# Altium integrated library Linear Technology Power Management System Supervisor, Monitor and Control.IntLib: 1611 symbols (part 62 of 100)
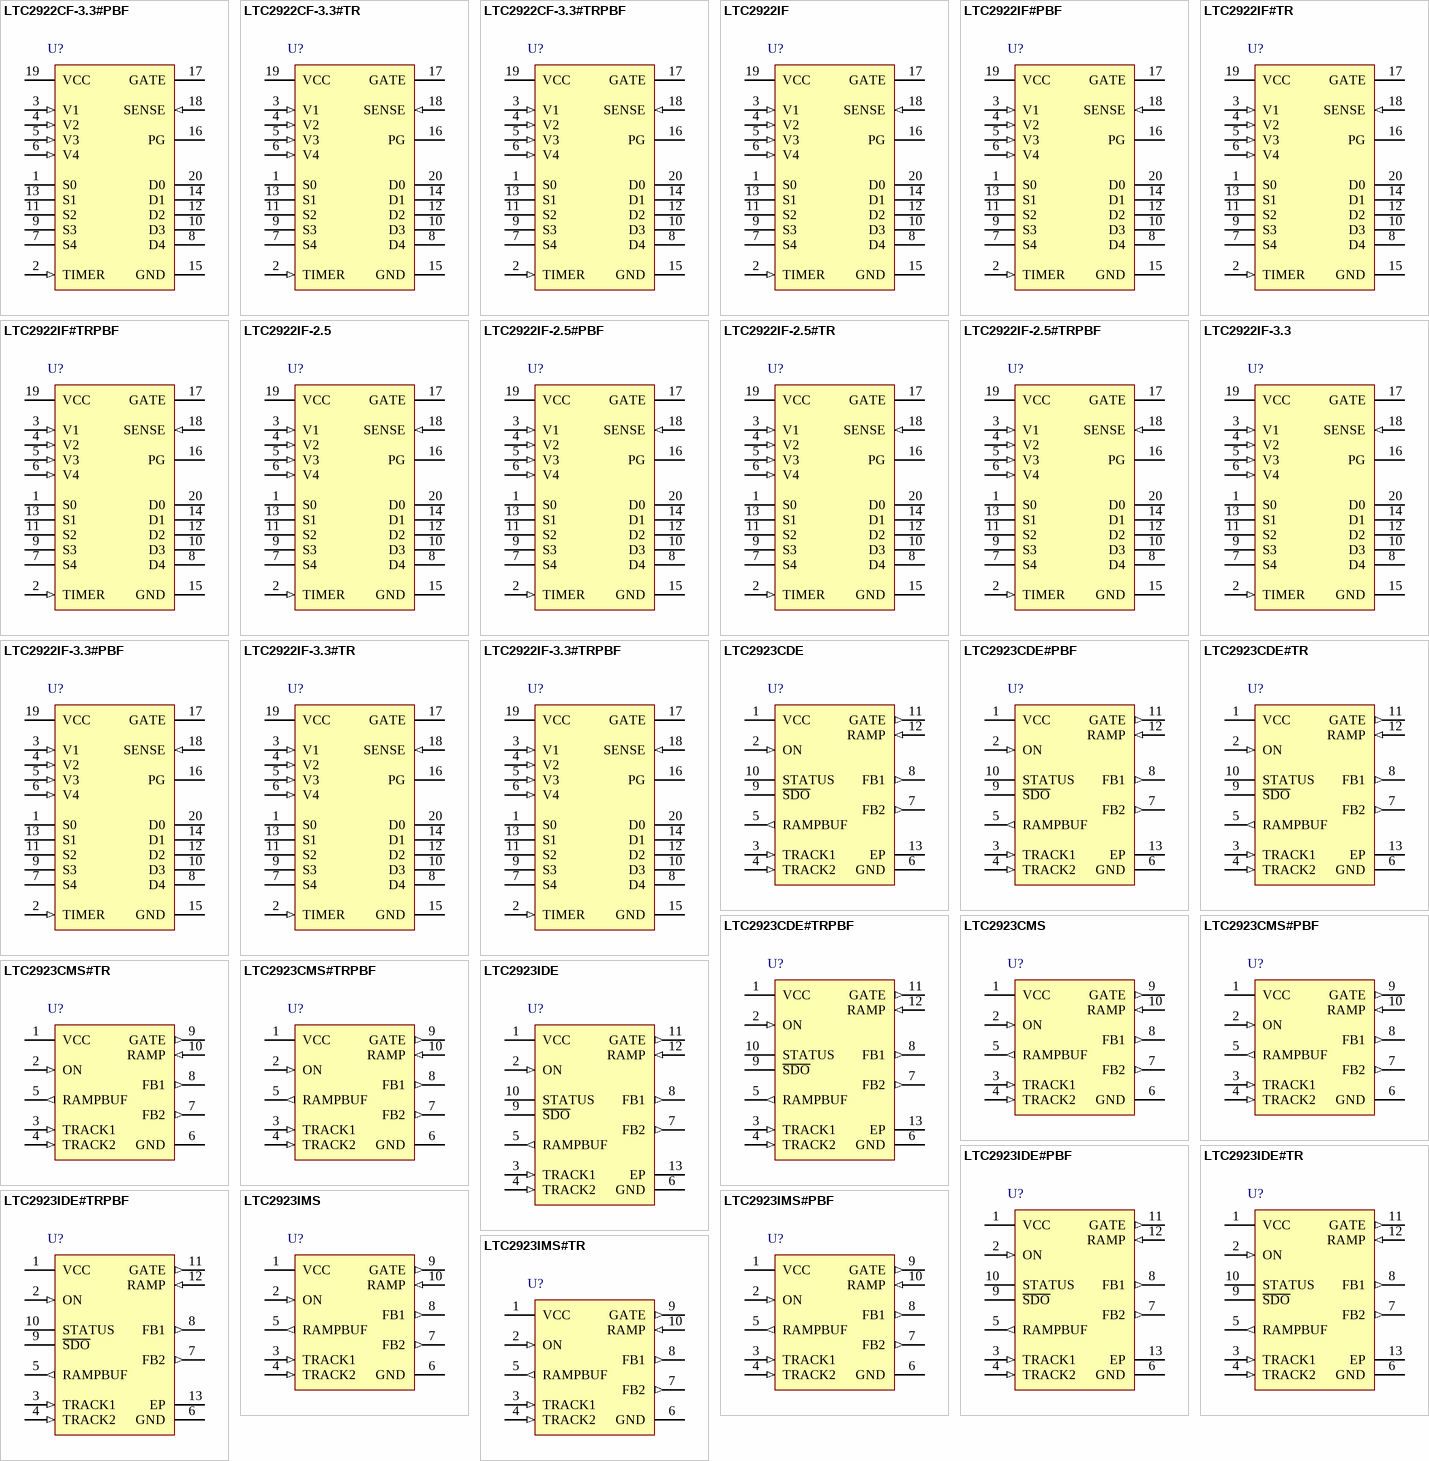
[diagram p106: symbols LTC2922CF-3.3#PBF to LTC2923IMS#TR]

## LTC2923CDE#TRPBF
designator U?
Power Supply Tracking Controller, 12-pin SON (DE-12), 0 to 70 degC, Pb-Free, Tape and Reel; Manufacturer: Linear Technology; PartNumber: LTC2923CDE#TRPBF; Number of Supplies(#): 3; DatasheetVersion: Rev. A; PackageVersion: Rev. D, 06/2010; PackageReference: DE-12; PackageDescription: 12-Pin Plastic DFN, Body 4 x 3 mm, Pitch 0.5 mm; Supplier 1: Digi-Key; Supplier Part Number 1: LTC2923CDE#TRPBF-ND; Packing: Tape and Reel; RoHS: TRUE; Mounting Technology: Surface Mount; Code_JEDEC: MO-229; ComponentLink1Description: Manufacturer URL; ComponentLink1URL: http://www.linear.com/; ComponentLink2Description: Datasheet; ComponentLink2URL: http://cds.linear.com/docs/en/datasheet/2923fa.pdf; ComponentLink3Description: Package Specification; ComponentLink3URL: http://cds.linear.com/docs/en/packaging/DFN_12_05-08-1695.pdf
footprint LT-DE-12-05-08-1695_V (SON, 12-Leads, Body 4x3mm, Pitch 0.5mm, Thermal Pad 3.3x1.7mm)
pins: 1 VCC (power) "Positive Supply Input Pin. The operating supply input range is 2.9V to 5.5V. An undervoltage lockout circuit resets the part when the supply is below 2.5V. VCC should be bypassed to GND with a 0.1uF capacitor.", 2 ON (in) "On Control Input. The ON pin has a threshold of 1.23V with 75mV of hysteresis. An active high will cause 10uA to flow from the GATE pin, ramping up the supplies. An active low pulls 10uA from the GATE pin, ramping the (See Datasheet)", 3 TRACK1 (in) "Tracking Control Input. A resistive voltage divider between RAMPBUF and TRACKx determines the tracking profile of a slave supply (see Applications Information). TRACKx pulls up to 0.8V and the current supplied at TRACKx is (See Datasheet)", 4 TRACK2 (in) "Tracking Control Input. A resistive voltage divider between RAMPBUF and TRACKx determines the tracking profile of a slave supply (see Applications Information). TRACKx pulls up to 0.8V and the current supplied at TRACKx is (See Datasheet)", 5 RAMPBUF (out) "Ramp Buffer Output. Provides a low impedance buffered version of the signal on the RAMP pin. This buffered output drives the resistive dividers that connect to the TRACKx pins. Limit the capacitance at the RAMPBUF pin to (See Datasheet)", 6 GND (power) "Circuit Ground.", 7 FB2 (out) "Feedback Control Output. FBx pulls up on the feedback node of slave supplies. Tracking is achieved by mirroring the current from TRACKx into FBx. If the appropriate resistive divider connects RAMPBUF and TRACKx, the FBx (See Datasheet)", 8 FB1 (out) "Feedback Control Output. FBx pulls up on the feedback node of slave supplies. Tracking is achieved by mirroring the current from TRACKx into FBx. If the appropriate resistive divider connects RAMPBUF and TRACKx, the FBx (See Datasheet)", 9 ~{SDO} (oc) "Slave Supply Shutdown Output. S\D\O\ is an open-drain output that holds the shutdown (RUN/SS) pins of the slave supplies low until the ON pin is pulled above 1.23V. If the slave supply is capable of operating with an input (See Datasheet)", 10 STATUS (oc) "Power Good Status Indicator. The STATUS pin is an open-drain output that pulls low until GATE has been fully charged at which time all supplies will have reached their final operating voltage", 11 GATE (out) "Gate Drive for External N-Channel FET. When the ON pin is high, an internal 10uA current source charges the gate of the external N-channel MOSFET. A capacitor connected from GATE to GND sets the ramp rate. An internal charge (See Datasheet)", 12 RAMP (in) "Ramp Buffer Input. When the RAMP pin is connected to the source of the external N-channel FET, the slave supplies track the FET's source as it ramps up and down. If the GATE is fully enhanced (GATE > RAMP + 4.9V) and (VC(See Datasheet)", 13 EP (power) "Circuit Ground."

## LTC2923CMS
designator U?
Power Supply Tracking Controller, 10-pin SOP (MS-10), 0 to 70 degC; Manufacturer: Linear Technology; PartNumber: LTC2923CMS; Number of Supplies(#): 3; DatasheetVersion: Rev. A; PackageVersion: Rev. E, 06/2010; PackageReference: MS-10; PackageDescription: 10-Pin Plastic MSOP, Body 3 x 3 mm, Pitch 0.5 mm; Supplier 1: Digi-Key; Supplier Part Number 1: LTC2923CMS-ND; RoHS: FALSE; Mounting Technology: Surface Mount; ComponentLink1Description: Manufacturer URL; ComponentLink1URL: http://www.linear.com/; ComponentLink2Description: Datasheet; ComponentLink2URL: http://cds.linear.com/docs/en/datasheet/2923fa.pdf; ComponentLink3Description: Package Specification; ComponentLink3URL: http://cds.linear.com/docs/en/packaging/05081661_F_MS.pdf
footprint LT-MS-10_N (SOP, 10-Leads, Body 3.1x3.1mm, Pitch 0.5mm, IPC Medium Density)
footprint LT-MS-10_L (SOP, 10-Leads, Body 3.1x3.1mm, Pitch 0.5mm, IPC High Density)
footprint LT-MS-10_M (SOP, 10-Leads, Body 3.1x3.1mm, Pitch 0.5mm, IPC Low Density)
pins: 1 VCC (power) "Positive Supply Input Pin. The operating supply input range is 2.9V to 5.5V. An undervoltage lockout circuit resets the part when the supply is below 2.5V. VCC should be bypassed to GND with a 0.1uF capacitor.", 2 ON (in) "On Control Input. The ON pin has a threshold of 1.23V with 75mV of hysteresis. An active high will cause 10uA to flow from the GATE pin, ramping up the supplies. An active low pulls 10uA from the GATE pin, ramping the (See Datasheet)", 3 TRACK1 (in) "Tracking Control Input. A resistive voltage divider between RAMPBUF and TRACKx determines the tracking profile of a slave supply (see Applications Information). TRACKx pulls up to 0.8V and the current supplied at TRACKx is (See Datasheet)", 4 TRACK2 (in) "Tracking Control Input. A resistive voltage divider between RAMPBUF and TRACKx determines the tracking profile of a slave supply (see Applications Information). TRACKx pulls up to 0.8V and the current supplied at TRACKx is (See Datasheet)", 5 RAMPBUF (out) "Ramp Buffer Output. Provides a low impedance buffered version of the signal on the RAMP pin. This buffered output drives the resistive dividers that connect to the TRACKx pins. Limit the capacitance at the RAMPBUF pin to (See Datasheet)", 6 GND (power) "Circuit Ground.", 7 FB2 (out) "Feedback Control Output. FBx pulls up on the feedback node of slave supplies. Tracking is achieved by mirroring the current from TRACKx into FBx. If the appropriate resistive divider connects RAMPBUF and TRACKx, the FBx (See Datasheet)", 8 FB1 (out) "Feedback Control Output. FBx pulls up on the feedback node of slave supplies. Tracking is achieved by mirroring the current from TRACKx into FBx. If the appropriate resistive divider connects RAMPBUF and TRACKx, the FBx (See Datasheet)", 9 GATE (out) "Gate Drive for External N-Channel FET. When the ON pin is high, an internal 10uA current source charges the gate of the external N-channel MOSFET. A capacitor connected from GATE to GND sets the ramp rate. An internal charge (See Datasheet)", 10 RAMP (in) "Ramp Buffer Input. When the RAMP pin is connected to the source of the external N-channel FET, the slave supplies track the FET's source as it ramps up and down. If the GATE is fully enhanced (GATE > RAMP + 4.9V) and (VC(See Datasheet)"

## LTC2923CMS#PBF
designator U?
Power Supply Tracking Controller, 10-pin SOP (MS-10), 0 to 70 degC, Pb-Free; Manufacturer: Linear Technology; PartNumber: LTC2923CMS#PBF; Number of Supplies(#): 3; DatasheetVersion: Rev. A; PackageVersion: Rev. E, 06/2010; PackageReference: MS-10; PackageDescription: 10-Pin Plastic MSOP, Body 3 x 3 mm, Pitch 0.5 mm; Supplier 1: Digi-Key; Supplier Part Number 1: LTC2923CMS#PBF-ND; Supplier 2: Farnell; Supplier Part Number 2: 2295438; Supplier 3: Newark; Supplier Part Number 3: 56M7086; RoHS: TRUE; Mounting Technology: Surface Mount; ComponentLink1Description: Manufacturer URL; ComponentLink1URL: http://www.linear.com/; ComponentLink2Description: Datasheet; ComponentLink2URL: http://cds.linear.com/docs/en/datasheet/2923fa.pdf; ComponentLink3Description: Package Specification; ComponentLink3URL: http://cds.linear.com/docs/en/packaging/05081661_F_MS.pdf
footprint LT-MS-10_N (SOP, 10-Leads, Body 3.1x3.1mm, Pitch 0.5mm, IPC Medium Density)
footprint LT-MS-10_L (SOP, 10-Leads, Body 3.1x3.1mm, Pitch 0.5mm, IPC High Density)
footprint LT-MS-10_M (SOP, 10-Leads, Body 3.1x3.1mm, Pitch 0.5mm, IPC Low Density)
pins: 1 VCC (power) "Positive Supply Input Pin. The operating supply input range is 2.9V to 5.5V. An undervoltage lockout circuit resets the part when the supply is below 2.5V. VCC should be bypassed to GND with a 0.1uF capacitor.", 2 ON (in) "On Control Input. The ON pin has a threshold of 1.23V with 75mV of hysteresis. An active high will cause 10uA to flow from the GATE pin, ramping up the supplies. An active low pulls 10uA from the GATE pin, ramping the (See Datasheet)", 3 TRACK1 (in) "Tracking Control Input. A resistive voltage divider between RAMPBUF and TRACKx determines the tracking profile of a slave supply (see Applications Information). TRACKx pulls up to 0.8V and the current supplied at TRACKx is (See Datasheet)", 4 TRACK2 (in) "Tracking Control Input. A resistive voltage divider between RAMPBUF and TRACKx determines the tracking profile of a slave supply (see Applications Information). TRACKx pulls up to 0.8V and the current supplied at TRACKx is (See Datasheet)", 5 RAMPBUF (out) "Ramp Buffer Output. Provides a low impedance buffered version of the signal on the RAMP pin. This buffered output drives the resistive dividers that connect to the TRACKx pins. Limit the capacitance at the RAMPBUF pin to (See Datasheet)", 6 GND (power) "Circuit Ground.", 7 FB2 (out) "Feedback Control Output. FBx pulls up on the feedback node of slave supplies. Tracking is achieved by mirroring the current from TRACKx into FBx. If the appropriate resistive divider connects RAMPBUF and TRACKx, the FBx (See Datasheet)", 8 FB1 (out) "Feedback Control Output. FBx pulls up on the feedback node of slave supplies. Tracking is achieved by mirroring the current from TRACKx into FBx. If the appropriate resistive divider connects RAMPBUF and TRACKx, the FBx (See Datasheet)", 9 GATE (out) "Gate Drive for External N-Channel FET. When the ON pin is high, an internal 10uA current source charges the gate of the external N-channel MOSFET. A capacitor connected from GATE to GND sets the ramp rate. An internal charge (See Datasheet)", 10 RAMP (in) "Ramp Buffer Input. When the RAMP pin is connected to the source of the external N-channel FET, the slave supplies track the FET's source as it ramps up and down. If the GATE is fully enhanced (GATE > RAMP + 4.9V) and (VC(See Datasheet)"

## LTC2923CMS#TR
designator U?
Power Supply Tracking Controller, 10-pin SOP (MS-10), 0 to 70 degC, Tape and Reel; Manufacturer: Linear Technology; PartNumber: LTC2923CMS#TR; Number of Supplies(#): 3; DatasheetVersion: Rev. A; PackageVersion: Rev. E, 06/2010; PackageReference: MS-10; PackageDescription: 10-Pin Plastic MSOP, Body 3 x 3 mm, Pitch 0.5 mm; Supplier 1: Digi-Key; Supplier Part Number 1: LTC2923CMS#TR-ND; Packing: Tape and Reel; RoHS: FALSE; Mounting Technology: Surface Mount; ComponentLink1Description: Manufacturer URL; ComponentLink1URL: http://www.linear.com/; ComponentLink2Description: Datasheet; ComponentLink2URL: http://cds.linear.com/docs/en/datasheet/2923fa.pdf; ComponentLink3Description: Package Specification; ComponentLink3URL: http://cds.linear.com/docs/en/packaging/05081661_F_MS.pdf
footprint LT-MS-10_N (SOP, 10-Leads, Body 3.1x3.1mm, Pitch 0.5mm, IPC Medium Density)
footprint LT-MS-10_L (SOP, 10-Leads, Body 3.1x3.1mm, Pitch 0.5mm, IPC High Density)
footprint LT-MS-10_M (SOP, 10-Leads, Body 3.1x3.1mm, Pitch 0.5mm, IPC Low Density)
pins: 1 VCC (power) "Positive Supply Input Pin. The operating supply input range is 2.9V to 5.5V. An undervoltage lockout circuit resets the part when the supply is below 2.5V. VCC should be bypassed to GND with a 0.1uF capacitor.", 2 ON (in) "On Control Input. The ON pin has a threshold of 1.23V with 75mV of hysteresis. An active high will cause 10uA to flow from the GATE pin, ramping up the supplies. An active low pulls 10uA from the GATE pin, ramping the (See Datasheet)", 3 TRACK1 (in) "Tracking Control Input. A resistive voltage divider between RAMPBUF and TRACKx determines the tracking profile of a slave supply (see Applications Information). TRACKx pulls up to 0.8V and the current supplied at TRACKx is (See Datasheet)", 4 TRACK2 (in) "Tracking Control Input. A resistive voltage divider between RAMPBUF and TRACKx determines the tracking profile of a slave supply (see Applications Information). TRACKx pulls up to 0.8V and the current supplied at TRACKx is (See Datasheet)", 5 RAMPBUF (out) "Ramp Buffer Output. Provides a low impedance buffered version of the signal on the RAMP pin. This buffered output drives the resistive dividers that connect to the TRACKx pins. Limit the capacitance at the RAMPBUF pin to (See Datasheet)", 6 GND (power) "Circuit Ground.", 7 FB2 (out) "Feedback Control Output. FBx pulls up on the feedback node of slave supplies. Tracking is achieved by mirroring the current from TRACKx into FBx. If the appropriate resistive divider connects RAMPBUF and TRACKx, the FBx (See Datasheet)", 8 FB1 (out) "Feedback Control Output. FBx pulls up on the feedback node of slave supplies. Tracking is achieved by mirroring the current from TRACKx into FBx. If the appropriate resistive divider connects RAMPBUF and TRACKx, the FBx (See Datasheet)", 9 GATE (out) "Gate Drive for External N-Channel FET. When the ON pin is high, an internal 10uA current source charges the gate of the external N-channel MOSFET. A capacitor connected from GATE to GND sets the ramp rate. An internal charge (See Datasheet)", 10 RAMP (in) "Ramp Buffer Input. When the RAMP pin is connected to the source of the external N-channel FET, the slave supplies track the FET's source as it ramps up and down. If the GATE is fully enhanced (GATE > RAMP + 4.9V) and (VC(See Datasheet)"

## LTC2923CMS#TRPBF
designator U?
Power Supply Tracking Controller, 10-pin SOP (MS-10), 0 to 70 degC, Pb-Free, Tape and Reel; Manufacturer: Linear Technology; PartNumber: LTC2923CMS#TRPBF; Number of Supplies(#): 3; DatasheetVersion: Rev. A; PackageVersion: Rev. E, 06/2010; PackageReference: MS-10; PackageDescription: 10-Pin Plastic MSOP, Body 3 x 3 mm, Pitch 0.5 mm; Supplier 1: Digi-Key; Supplier Part Number 1: LTC2923CMS#TRPBF-ND; Packing: Tape and Reel; RoHS: TRUE; Mounting Technology: Surface Mount; ComponentLink1Description: Manufacturer URL; ComponentLink1URL: http://www.linear.com/; ComponentLink2Description: Datasheet; ComponentLink2URL: http://cds.linear.com/docs/en/datasheet/2923fa.pdf; ComponentLink3Description: Package Specification; ComponentLink3URL: http://cds.linear.com/docs/en/packaging/05081661_F_MS.pdf
footprint LT-MS-10_N (SOP, 10-Leads, Body 3.1x3.1mm, Pitch 0.5mm, IPC Medium Density)
footprint LT-MS-10_L (SOP, 10-Leads, Body 3.1x3.1mm, Pitch 0.5mm, IPC High Density)
footprint LT-MS-10_M (SOP, 10-Leads, Body 3.1x3.1mm, Pitch 0.5mm, IPC Low Density)
pins: 1 VCC (power) "Positive Supply Input Pin. The operating supply input range is 2.9V to 5.5V. An undervoltage lockout circuit resets the part when the supply is below 2.5V. VCC should be bypassed to GND with a 0.1uF capacitor.", 2 ON (in) "On Control Input. The ON pin has a threshold of 1.23V with 75mV of hysteresis. An active high will cause 10uA to flow from the GATE pin, ramping up the supplies. An active low pulls 10uA from the GATE pin, ramping the (See Datasheet)", 3 TRACK1 (in) "Tracking Control Input. A resistive voltage divider between RAMPBUF and TRACKx determines the tracking profile of a slave supply (see Applications Information). TRACKx pulls up to 0.8V and the current supplied at TRACKx is (See Datasheet)", 4 TRACK2 (in) "Tracking Control Input. A resistive voltage divider between RAMPBUF and TRACKx determines the tracking profile of a slave supply (see Applications Information). TRACKx pulls up to 0.8V and the current supplied at TRACKx is (See Datasheet)", 5 RAMPBUF (out) "Ramp Buffer Output. Provides a low impedance buffered version of the signal on the RAMP pin. This buffered output drives the resistive dividers that connect to the TRACKx pins. Limit the capacitance at the RAMPBUF pin to (See Datasheet)", 6 GND (power) "Circuit Ground.", 7 FB2 (out) "Feedback Control Output. FBx pulls up on the feedback node of slave supplies. Tracking is achieved by mirroring the current from TRACKx into FBx. If the appropriate resistive divider connects RAMPBUF and TRACKx, the FBx (See Datasheet)", 8 FB1 (out) "Feedback Control Output. FBx pulls up on the feedback node of slave supplies. Tracking is achieved by mirroring the current from TRACKx into FBx. If the appropriate resistive divider connects RAMPBUF and TRACKx, the FBx (See Datasheet)", 9 GATE (out) "Gate Drive for External N-Channel FET. When the ON pin is high, an internal 10uA current source charges the gate of the external N-channel MOSFET. A capacitor connected from GATE to GND sets the ramp rate. An internal charge (See Datasheet)", 10 RAMP (in) "Ramp Buffer Input. When the RAMP pin is connected to the source of the external N-channel FET, the slave supplies track the FET's source as it ramps up and down. If the GATE is fully enhanced (GATE > RAMP + 4.9V) and (VC(See Datasheet)"

## LTC2923IDE
designator U?
Power Supply Tracking Controller, 12-pin SON (DE-12), -40 to 85 degC; Manufacturer: Linear Technology; PartNumber: LTC2923IDE; Number of Supplies(#): 3; DatasheetVersion: Rev. A; PackageVersion: Rev. D, 06/2010; PackageReference: DE-12; PackageDescription: 12-Pin Plastic DFN, Body 4 x 3 mm, Pitch 0.5 mm; Supplier 1: Digi-Key; Supplier Part Number 1: LTC2923IDE-ND; RoHS: FALSE; Mounting Technology: Surface Mount; Code_JEDEC: MO-229; ComponentLink1Description: Manufacturer URL; ComponentLink1URL: http://www.linear.com/; ComponentLink2Description: Datasheet; ComponentLink2URL: http://cds.linear.com/docs/en/datasheet/2923fa.pdf; ComponentLink3Description: Package Specification; ComponentLink3URL: http://cds.linear.com/docs/en/packaging/DFN_12_05-08-1695.pdf
footprint LT-DE-12-05-08-1695_V (SON, 12-Leads, Body 4x3mm, Pitch 0.5mm, Thermal Pad 3.3x1.7mm)
pins: 1 VCC (power) "Positive Supply Input Pin. The operating supply input range is 2.9V to 5.5V. An undervoltage lockout circuit resets the part when the supply is below 2.5V. VCC should be bypassed to GND with a 0.1uF capacitor.", 2 ON (in) "On Control Input. The ON pin has a threshold of 1.23V with 75mV of hysteresis. An active high will cause 10uA to flow from the GATE pin, ramping up the supplies. An active low pulls 10uA from the GATE pin, ramping the (See Datasheet)", 3 TRACK1 (in) "Tracking Control Input. A resistive voltage divider between RAMPBUF and TRACKx determines the tracking profile of a slave supply (see Applications Information). TRACKx pulls up to 0.8V and the current supplied at TRACKx is (See Datasheet)", 4 TRACK2 (in) "Tracking Control Input. A resistive voltage divider between RAMPBUF and TRACKx determines the tracking profile of a slave supply (see Applications Information). TRACKx pulls up to 0.8V and the current supplied at TRACKx is (See Datasheet)", 5 RAMPBUF (out) "Ramp Buffer Output. Provides a low impedance buffered version of the signal on the RAMP pin. This buffered output drives the resistive dividers that connect to the TRACKx pins. Limit the capacitance at the RAMPBUF pin to (See Datasheet)", 6 GND (power) "Circuit Ground.", 7 FB2 (out) "Feedback Control Output. FBx pulls up on the feedback node of slave supplies. Tracking is achieved by mirroring the current from TRACKx into FBx. If the appropriate resistive divider connects RAMPBUF and TRACKx, the FBx (See Datasheet)", 8 FB1 (out) "Feedback Control Output. FBx pulls up on the feedback node of slave supplies. Tracking is achieved by mirroring the current from TRACKx into FBx. If the appropriate resistive divider connects RAMPBUF and TRACKx, the FBx (See Datasheet)", 9 ~{SDO} (oc) "Slave Supply Shutdown Output. S\D\O\ is an open-drain output that holds the shutdown (RUN/SS) pins of the slave supplies low until the ON pin is pulled above 1.23V. If the slave supply is capable of operating with an input (See Datasheet)", 10 STATUS (oc) "Power Good Status Indicator. The STATUS pin is an open-drain output that pulls low until GATE has been fully charged at which time all supplies will have reached their final operating voltage", 11 GATE (out) "Gate Drive for External N-Channel FET. When the ON pin is high, an internal 10uA current source charges the gate of the external N-channel MOSFET. A capacitor connected from GATE to GND sets the ramp rate. An internal charge (See Datasheet)", 12 RAMP (in) "Ramp Buffer Input. When the RAMP pin is connected to the source of the external N-channel FET, the slave supplies track the FET's source as it ramps up and down. If the GATE is fully enhanced (GATE > RAMP + 4.9V) and (VC(See Datasheet)", 13 EP (power) "Circuit Ground."

## LTC2923IDE#PBF
designator U?
Power Supply Tracking Controller, 12-pin SON (DE-12), -40 to 85 degC, Pb-Free; Manufacturer: Linear Technology; PartNumber: LTC2923IDE#PBF; Number of Supplies(#): 3; DatasheetVersion: Rev. A; PackageVersion: Rev. D, 06/2010; PackageReference: DE-12; PackageDescription: 12-Pin Plastic DFN, Body 4 x 3 mm, Pitch 0.5 mm; Supplier 1: Digi-Key; Supplier Part Number 1: LTC2923IDE#PBF-ND; Supplier 2: Newark; Supplier Part Number 2: 56M7090; RoHS: TRUE; Mounting Technology: Surface Mount; Code_JEDEC: MO-229; ComponentLink1Description: Manufacturer URL; ComponentLink1URL: http://www.linear.com/; ComponentLink2Description: Datasheet; ComponentLink2URL: http://cds.linear.com/docs/en/datasheet/2923fa.pdf; ComponentLink3Description: Package Specification; ComponentLink3URL: http://cds.linear.com/docs/en/packaging/DFN_12_05-08-1695.pdf
footprint LT-DE-12-05-08-1695_V (SON, 12-Leads, Body 4x3mm, Pitch 0.5mm, Thermal Pad 3.3x1.7mm)
pins: 1 VCC (power) "Positive Supply Input Pin. The operating supply input range is 2.9V to 5.5V. An undervoltage lockout circuit resets the part when the supply is below 2.5V. VCC should be bypassed to GND with a 0.1uF capacitor.", 2 ON (in) "On Control Input. The ON pin has a threshold of 1.23V with 75mV of hysteresis. An active high will cause 10uA to flow from the GATE pin, ramping up the supplies. An active low pulls 10uA from the GATE pin, ramping the (See Datasheet)", 3 TRACK1 (in) "Tracking Control Input. A resistive voltage divider between RAMPBUF and TRACKx determines the tracking profile of a slave supply (see Applications Information). TRACKx pulls up to 0.8V and the current supplied at TRACKx is (See Datasheet)", 4 TRACK2 (in) "Tracking Control Input. A resistive voltage divider between RAMPBUF and TRACKx determines the tracking profile of a slave supply (see Applications Information). TRACKx pulls up to 0.8V and the current supplied at TRACKx is (See Datasheet)", 5 RAMPBUF (out) "Ramp Buffer Output. Provides a low impedance buffered version of the signal on the RAMP pin. This buffered output drives the resistive dividers that connect to the TRACKx pins. Limit the capacitance at the RAMPBUF pin to (See Datasheet)", 6 GND (power) "Circuit Ground.", 7 FB2 (out) "Feedback Control Output. FBx pulls up on the feedback node of slave supplies. Tracking is achieved by mirroring the current from TRACKx into FBx. If the appropriate resistive divider connects RAMPBUF and TRACKx, the FBx (See Datasheet)", 8 FB1 (out) "Feedback Control Output. FBx pulls up on the feedback node of slave supplies. Tracking is achieved by mirroring the current from TRACKx into FBx. If the appropriate resistive divider connects RAMPBUF and TRACKx, the FBx (See Datasheet)", 9 ~{SDO} (oc) "Slave Supply Shutdown Output. S\D\O\ is an open-drain output that holds the shutdown (RUN/SS) pins of the slave supplies low until the ON pin is pulled above 1.23V. If the slave supply is capable of operating with an input (See Datasheet)", 10 STATUS (oc) "Power Good Status Indicator. The STATUS pin is an open-drain output that pulls low until GATE has been fully charged at which time all supplies will have reached their final operating voltage", 11 GATE (out) "Gate Drive for External N-Channel FET. When the ON pin is high, an internal 10uA current source charges the gate of the external N-channel MOSFET. A capacitor connected from GATE to GND sets the ramp rate. An internal charge (See Datasheet)", 12 RAMP (in) "Ramp Buffer Input. When the RAMP pin is connected to the source of the external N-channel FET, the slave supplies track the FET's source as it ramps up and down. If the GATE is fully enhanced (GATE > RAMP + 4.9V) and (VC(See Datasheet)", 13 EP (power) "Circuit Ground."

## LTC2923IDE#TR
designator U?
Power Supply Tracking Controller, 12-pin SON (DE-12), -40 to 85 degC, Tape and Reel; Manufacturer: Linear Technology; PartNumber: LTC2923IDE#TR; Number of Supplies(#): 3; DatasheetVersion: Rev. A; PackageVersion: Rev. D, 06/2010; PackageReference: DE-12; PackageDescription: 12-Pin Plastic DFN, Body 4 x 3 mm, Pitch 0.5 mm; Supplier 1: Digi-Key; Supplier Part Number 1: LTC2923IDE#TR-ND; Packing: Tape and Reel; RoHS: FALSE; Mounting Technology: Surface Mount; Code_JEDEC: MO-229; ComponentLink1Description: Manufacturer URL; ComponentLink1URL: http://www.linear.com/; ComponentLink2Description: Datasheet; ComponentLink2URL: http://cds.linear.com/docs/en/datasheet/2923fa.pdf; ComponentLink3Description: Package Specification; ComponentLink3URL: http://cds.linear.com/docs/en/packaging/DFN_12_05-08-1695.pdf
footprint LT-DE-12-05-08-1695_V (SON, 12-Leads, Body 4x3mm, Pitch 0.5mm, Thermal Pad 3.3x1.7mm)
pins: 1 VCC (power) "Positive Supply Input Pin. The operating supply input range is 2.9V to 5.5V. An undervoltage lockout circuit resets the part when the supply is below 2.5V. VCC should be bypassed to GND with a 0.1uF capacitor.", 2 ON (in) "On Control Input. The ON pin has a threshold of 1.23V with 75mV of hysteresis. An active high will cause 10uA to flow from the GATE pin, ramping up the supplies. An active low pulls 10uA from the GATE pin, ramping the (See Datasheet)", 3 TRACK1 (in) "Tracking Control Input. A resistive voltage divider between RAMPBUF and TRACKx determines the tracking profile of a slave supply (see Applications Information). TRACKx pulls up to 0.8V and the current supplied at TRACKx is (See Datasheet)", 4 TRACK2 (in) "Tracking Control Input. A resistive voltage divider between RAMPBUF and TRACKx determines the tracking profile of a slave supply (see Applications Information). TRACKx pulls up to 0.8V and the current supplied at TRACKx is (See Datasheet)", 5 RAMPBUF (out) "Ramp Buffer Output. Provides a low impedance buffered version of the signal on the RAMP pin. This buffered output drives the resistive dividers that connect to the TRACKx pins. Limit the capacitance at the RAMPBUF pin to (See Datasheet)", 6 GND (power) "Circuit Ground.", 7 FB2 (out) "Feedback Control Output. FBx pulls up on the feedback node of slave supplies. Tracking is achieved by mirroring the current from TRACKx into FBx. If the appropriate resistive divider connects RAMPBUF and TRACKx, the FBx (See Datasheet)", 8 FB1 (out) "Feedback Control Output. FBx pulls up on the feedback node of slave supplies. Tracking is achieved by mirroring the current from TRACKx into FBx. If the appropriate resistive divider connects RAMPBUF and TRACKx, the FBx (See Datasheet)", 9 ~{SDO} (oc) "Slave Supply Shutdown Output. S\D\O\ is an open-drain output that holds the shutdown (RUN/SS) pins of the slave supplies low until the ON pin is pulled above 1.23V. If the slave supply is capable of operating with an input (See Datasheet)", 10 STATUS (oc) "Power Good Status Indicator. The STATUS pin is an open-drain output that pulls low until GATE has been fully charged at which time all supplies will have reached their final operating voltage", 11 GATE (out) "Gate Drive for External N-Channel FET. When the ON pin is high, an internal 10uA current source charges the gate of the external N-channel MOSFET. A capacitor connected from GATE to GND sets the ramp rate. An internal charge (See Datasheet)", 12 RAMP (in) "Ramp Buffer Input. When the RAMP pin is connected to the source of the external N-channel FET, the slave supplies track the FET's source as it ramps up and down. If the GATE is fully enhanced (GATE > RAMP + 4.9V) and (VC(See Datasheet)", 13 EP (power) "Circuit Ground."

## LTC2923IDE#TRPBF
designator U?
Power Supply Tracking Controller, 12-pin SON (DE-12), -40 to 85 degC, Pb-Free, Tape and Reel; Manufacturer: Linear Technology; PartNumber: LTC2923IDE#TRPBF; Number of Supplies(#): 3; DatasheetVersion: Rev. A; PackageVersion: Rev. D, 06/2010; PackageReference: DE-12; PackageDescription: 12-Pin Plastic DFN, Body 4 x 3 mm, Pitch 0.5 mm; Supplier 1: Digi-Key; Supplier Part Number 1: LTC2923IDE#TRPBF-ND; Packing: Tape and Reel; RoHS: TRUE; Mounting Technology: Surface Mount; Code_JEDEC: MO-229; ComponentLink1Description: Manufacturer URL; ComponentLink1URL: http://www.linear.com/; ComponentLink2Description: Datasheet; ComponentLink2URL: http://cds.linear.com/docs/en/datasheet/2923fa.pdf; ComponentLink3Description: Package Specification; ComponentLink3URL: http://cds.linear.com/docs/en/packaging/DFN_12_05-08-1695.pdf
footprint LT-DE-12-05-08-1695_V (SON, 12-Leads, Body 4x3mm, Pitch 0.5mm, Thermal Pad 3.3x1.7mm)
pins: 1 VCC (power) "Positive Supply Input Pin. The operating supply input range is 2.9V to 5.5V. An undervoltage lockout circuit resets the part when the supply is below 2.5V. VCC should be bypassed to GND with a 0.1uF capacitor.", 2 ON (in) "On Control Input. The ON pin has a threshold of 1.23V with 75mV of hysteresis. An active high will cause 10uA to flow from the GATE pin, ramping up the supplies. An active low pulls 10uA from the GATE pin, ramping the (See Datasheet)", 3 TRACK1 (in) "Tracking Control Input. A resistive voltage divider between RAMPBUF and TRACKx determines the tracking profile of a slave supply (see Applications Information). TRACKx pulls up to 0.8V and the current supplied at TRACKx is (See Datasheet)", 4 TRACK2 (in) "Tracking Control Input. A resistive voltage divider between RAMPBUF and TRACKx determines the tracking profile of a slave supply (see Applications Information). TRACKx pulls up to 0.8V and the current supplied at TRACKx is (See Datasheet)", 5 RAMPBUF (out) "Ramp Buffer Output. Provides a low impedance buffered version of the signal on the RAMP pin. This buffered output drives the resistive dividers that connect to the TRACKx pins. Limit the capacitance at the RAMPBUF pin to (See Datasheet)", 6 GND (power) "Circuit Ground.", 7 FB2 (out) "Feedback Control Output. FBx pulls up on the feedback node of slave supplies. Tracking is achieved by mirroring the current from TRACKx into FBx. If the appropriate resistive divider connects RAMPBUF and TRACKx, the FBx (See Datasheet)", 8 FB1 (out) "Feedback Control Output. FBx pulls up on the feedback node of slave supplies. Tracking is achieved by mirroring the current from TRACKx into FBx. If the appropriate resistive divider connects RAMPBUF and TRACKx, the FBx (See Datasheet)", 9 ~{SDO} (oc) "Slave Supply Shutdown Output. S\D\O\ is an open-drain output that holds the shutdown (RUN/SS) pins of the slave supplies low until the ON pin is pulled above 1.23V. If the slave supply is capable of operating with an input (See Datasheet)", 10 STATUS (oc) "Power Good Status Indicator. The STATUS pin is an open-drain output that pulls low until GATE has been fully charged at which time all supplies will have reached their final operating voltage", 11 GATE (out) "Gate Drive for External N-Channel FET. When the ON pin is high, an internal 10uA current source charges the gate of the external N-channel MOSFET. A capacitor connected from GATE to GND sets the ramp rate. An internal charge (See Datasheet)", 12 RAMP (in) "Ramp Buffer Input. When the RAMP pin is connected to the source of the external N-channel FET, the slave supplies track the FET's source as it ramps up and down. If the GATE is fully enhanced (GATE > RAMP + 4.9V) and (VC(See Datasheet)", 13 EP (power) "Circuit Ground."

## LTC2923IMS
designator U?
Power Supply Tracking Controller, 10-pin SOP (MS-10), -40 to 85 degC; Manufacturer: Linear Technology; PartNumber: LTC2923IMS; Number of Supplies(#): 3; DatasheetVersion: Rev. A; PackageVersion: Rev. E, 06/2010; PackageReference: MS-10; PackageDescription: 10-Pin Plastic MSOP, Body 3 x 3 mm, Pitch 0.5 mm; Supplier 1: Digi-Key; Supplier Part Number 1: LTC2923IMS-ND; Supplier 2: Newark; Supplier Part Number 2: 56M7093; RoHS: FALSE; Mounting Technology: Surface Mount; ComponentLink1Description: Manufacturer URL; ComponentLink1URL: http://www.linear.com/; ComponentLink2Description: Datasheet; ComponentLink2URL: http://cds.linear.com/docs/en/datasheet/2923fa.pdf; ComponentLink3Description: Package Specification; ComponentLink3URL: http://cds.linear.com/docs/en/packaging/05081661_F_MS.pdf
footprint LT-MS-10_N (SOP, 10-Leads, Body 3.1x3.1mm, Pitch 0.5mm, IPC Medium Density)
footprint LT-MS-10_L (SOP, 10-Leads, Body 3.1x3.1mm, Pitch 0.5mm, IPC High Density)
footprint LT-MS-10_M (SOP, 10-Leads, Body 3.1x3.1mm, Pitch 0.5mm, IPC Low Density)
pins: 1 VCC (power) "Positive Supply Input Pin. The operating supply input range is 2.9V to 5.5V. An undervoltage lockout circuit resets the part when the supply is below 2.5V. VCC should be bypassed to GND with a 0.1uF capacitor.", 2 ON (in) "On Control Input. The ON pin has a threshold of 1.23V with 75mV of hysteresis. An active high will cause 10uA to flow from the GATE pin, ramping up the supplies. An active low pulls 10uA from the GATE pin, ramping the (See Datasheet)", 3 TRACK1 (in) "Tracking Control Input. A resistive voltage divider between RAMPBUF and TRACKx determines the tracking profile of a slave supply (see Applications Information). TRACKx pulls up to 0.8V and the current supplied at TRACKx is (See Datasheet)", 4 TRACK2 (in) "Tracking Control Input. A resistive voltage divider between RAMPBUF and TRACKx determines the tracking profile of a slave supply (see Applications Information). TRACKx pulls up to 0.8V and the current supplied at TRACKx is (See Datasheet)", 5 RAMPBUF (out) "Ramp Buffer Output. Provides a low impedance buffered version of the signal on the RAMP pin. This buffered output drives the resistive dividers that connect to the TRACKx pins. Limit the capacitance at the RAMPBUF pin to (See Datasheet)", 6 GND (power) "Circuit Ground.", 7 FB2 (out) "Feedback Control Output. FBx pulls up on the feedback node of slave supplies. Tracking is achieved by mirroring the current from TRACKx into FBx. If the appropriate resistive divider connects RAMPBUF and TRACKx, the FBx (See Datasheet)", 8 FB1 (out) "Feedback Control Output. FBx pulls up on the feedback node of slave supplies. Tracking is achieved by mirroring the current from TRACKx into FBx. If the appropriate resistive divider connects RAMPBUF and TRACKx, the FBx (See Datasheet)", 9 GATE (out) "Gate Drive for External N-Channel FET. When the ON pin is high, an internal 10uA current source charges the gate of the external N-channel MOSFET. A capacitor connected from GATE to GND sets the ramp rate. An internal charge (See Datasheet)", 10 RAMP (in) "Ramp Buffer Input. When the RAMP pin is connected to the source of the external N-channel FET, the slave supplies track the FET's source as it ramps up and down. If the GATE is fully enhanced (GATE > RAMP + 4.9V) and (VC(See Datasheet)"

## LTC2923IMS#PBF
designator U?
Power Supply Tracking Controller, 10-pin SOP (MS-10), -40 to 85 degC, Pb-Free; Manufacturer: Linear Technology; PartNumber: LTC2923IMS#PBF; Number of Supplies(#): 3; DatasheetVersion: Rev. A; PackageVersion: Rev. E, 06/2010; PackageReference: MS-10; PackageDescription: 10-Pin Plastic MSOP, Body 3 x 3 mm, Pitch 0.5 mm; Supplier 1: Digi-Key; Supplier Part Number 1: LTC2923IMS#PBF-ND; Supplier 2: Newark; Supplier Part Number 2: 56M7094; RoHS: TRUE; Mounting Technology: Surface Mount; ComponentLink1Description: Manufacturer URL; ComponentLink1URL: http://www.linear.com/; ComponentLink2Description: Datasheet; ComponentLink2URL: http://cds.linear.com/docs/en/datasheet/2923fa.pdf; ComponentLink3Description: Package Specification; ComponentLink3URL: http://cds.linear.com/docs/en/packaging/05081661_F_MS.pdf
footprint LT-MS-10_N (SOP, 10-Leads, Body 3.1x3.1mm, Pitch 0.5mm, IPC Medium Density)
footprint LT-MS-10_L (SOP, 10-Leads, Body 3.1x3.1mm, Pitch 0.5mm, IPC High Density)
footprint LT-MS-10_M (SOP, 10-Leads, Body 3.1x3.1mm, Pitch 0.5mm, IPC Low Density)
pins: 1 VCC (power) "Positive Supply Input Pin. The operating supply input range is 2.9V to 5.5V. An undervoltage lockout circuit resets the part when the supply is below 2.5V. VCC should be bypassed to GND with a 0.1uF capacitor.", 2 ON (in) "On Control Input. The ON pin has a threshold of 1.23V with 75mV of hysteresis. An active high will cause 10uA to flow from the GATE pin, ramping up the supplies. An active low pulls 10uA from the GATE pin, ramping the (See Datasheet)", 3 TRACK1 (in) "Tracking Control Input. A resistive voltage divider between RAMPBUF and TRACKx determines the tracking profile of a slave supply (see Applications Information). TRACKx pulls up to 0.8V and the current supplied at TRACKx is (See Datasheet)", 4 TRACK2 (in) "Tracking Control Input. A resistive voltage divider between RAMPBUF and TRACKx determines the tracking profile of a slave supply (see Applications Information). TRACKx pulls up to 0.8V and the current supplied at TRACKx is (See Datasheet)", 5 RAMPBUF (out) "Ramp Buffer Output. Provides a low impedance buffered version of the signal on the RAMP pin. This buffered output drives the resistive dividers that connect to the TRACKx pins. Limit the capacitance at the RAMPBUF pin to (See Datasheet)", 6 GND (power) "Circuit Ground.", 7 FB2 (out) "Feedback Control Output. FBx pulls up on the feedback node of slave supplies. Tracking is achieved by mirroring the current from TRACKx into FBx. If the appropriate resistive divider connects RAMPBUF and TRACKx, the FBx (See Datasheet)", 8 FB1 (out) "Feedback Control Output. FBx pulls up on the feedback node of slave supplies. Tracking is achieved by mirroring the current from TRACKx into FBx. If the appropriate resistive divider connects RAMPBUF and TRACKx, the FBx (See Datasheet)", 9 GATE (out) "Gate Drive for External N-Channel FET. When the ON pin is high, an internal 10uA current source charges the gate of the external N-channel MOSFET. A capacitor connected from GATE to GND sets the ramp rate. An internal charge (See Datasheet)", 10 RAMP (in) "Ramp Buffer Input. When the RAMP pin is connected to the source of the external N-channel FET, the slave supplies track the FET's source as it ramps up and down. If the GATE is fully enhanced (GATE > RAMP + 4.9V) and (VC(See Datasheet)"

## LTC2923IMS#TR
designator U?
Power Supply Tracking Controller, 10-pin SOP (MS-10), -40 to 85 degC, Tape and Reel; Manufacturer: Linear Technology; PartNumber: LTC2923IMS#TR; Number of Supplies(#): 3; DatasheetVersion: Rev. A; PackageVersion: Rev. E, 06/2010; PackageReference: MS-10; PackageDescription: 10-Pin Plastic MSOP, Body 3 x 3 mm, Pitch 0.5 mm; Supplier 1: Digi-Key; Supplier Part Number 1: LTC2923IMS#TR-ND; Packing: Tape and Reel; RoHS: FALSE; Mounting Technology: Surface Mount; ComponentLink1Description: Manufacturer URL; ComponentLink1URL: http://www.linear.com/; ComponentLink2Description: Datasheet; ComponentLink2URL: http://cds.linear.com/docs/en/datasheet/2923fa.pdf; ComponentLink3Description: Package Specification; ComponentLink3URL: http://cds.linear.com/docs/en/packaging/05081661_F_MS.pdf
footprint LT-MS-10_N (SOP, 10-Leads, Body 3.1x3.1mm, Pitch 0.5mm, IPC Medium Density)
footprint LT-MS-10_L (SOP, 10-Leads, Body 3.1x3.1mm, Pitch 0.5mm, IPC High Density)
footprint LT-MS-10_M (SOP, 10-Leads, Body 3.1x3.1mm, Pitch 0.5mm, IPC Low Density)
pins: 1 VCC (power) "Positive Supply Input Pin. The operating supply input range is 2.9V to 5.5V. An undervoltage lockout circuit resets the part when the supply is below 2.5V. VCC should be bypassed to GND with a 0.1uF capacitor.", 2 ON (in) "On Control Input. The ON pin has a threshold of 1.23V with 75mV of hysteresis. An active high will cause 10uA to flow from the GATE pin, ramping up the supplies. An active low pulls 10uA from the GATE pin, ramping the (See Datasheet)", 3 TRACK1 (in) "Tracking Control Input. A resistive voltage divider between RAMPBUF and TRACKx determines the tracking profile of a slave supply (see Applications Information). TRACKx pulls up to 0.8V and the current supplied at TRACKx is (See Datasheet)", 4 TRACK2 (in) "Tracking Control Input. A resistive voltage divider between RAMPBUF and TRACKx determines the tracking profile of a slave supply (see Applications Information). TRACKx pulls up to 0.8V and the current supplied at TRACKx is (See Datasheet)", 5 RAMPBUF (out) "Ramp Buffer Output. Provides a low impedance buffered version of the signal on the RAMP pin. This buffered output drives the resistive dividers that connect to the TRACKx pins. Limit the capacitance at the RAMPBUF pin to (See Datasheet)", 6 GND (power) "Circuit Ground.", 7 FB2 (out) "Feedback Control Output. FBx pulls up on the feedback node of slave supplies. Tracking is achieved by mirroring the current from TRACKx into FBx. If the appropriate resistive divider connects RAMPBUF and TRACKx, the FBx (See Datasheet)", 8 FB1 (out) "Feedback Control Output. FBx pulls up on the feedback node of slave supplies. Tracking is achieved by mirroring the current from TRACKx into FBx. If the appropriate resistive divider connects RAMPBUF and TRACKx, the FBx (See Datasheet)", 9 GATE (out) "Gate Drive for External N-Channel FET. When the ON pin is high, an internal 10uA current source charges the gate of the external N-channel MOSFET. A capacitor connected from GATE to GND sets the ramp rate. An internal charge (See Datasheet)", 10 RAMP (in) "Ramp Buffer Input. When the RAMP pin is connected to the source of the external N-channel FET, the slave supplies track the FET's source as it ramps up and down. If the GATE is fully enhanced (GATE > RAMP + 4.9V) and (VC(See Datasheet)"

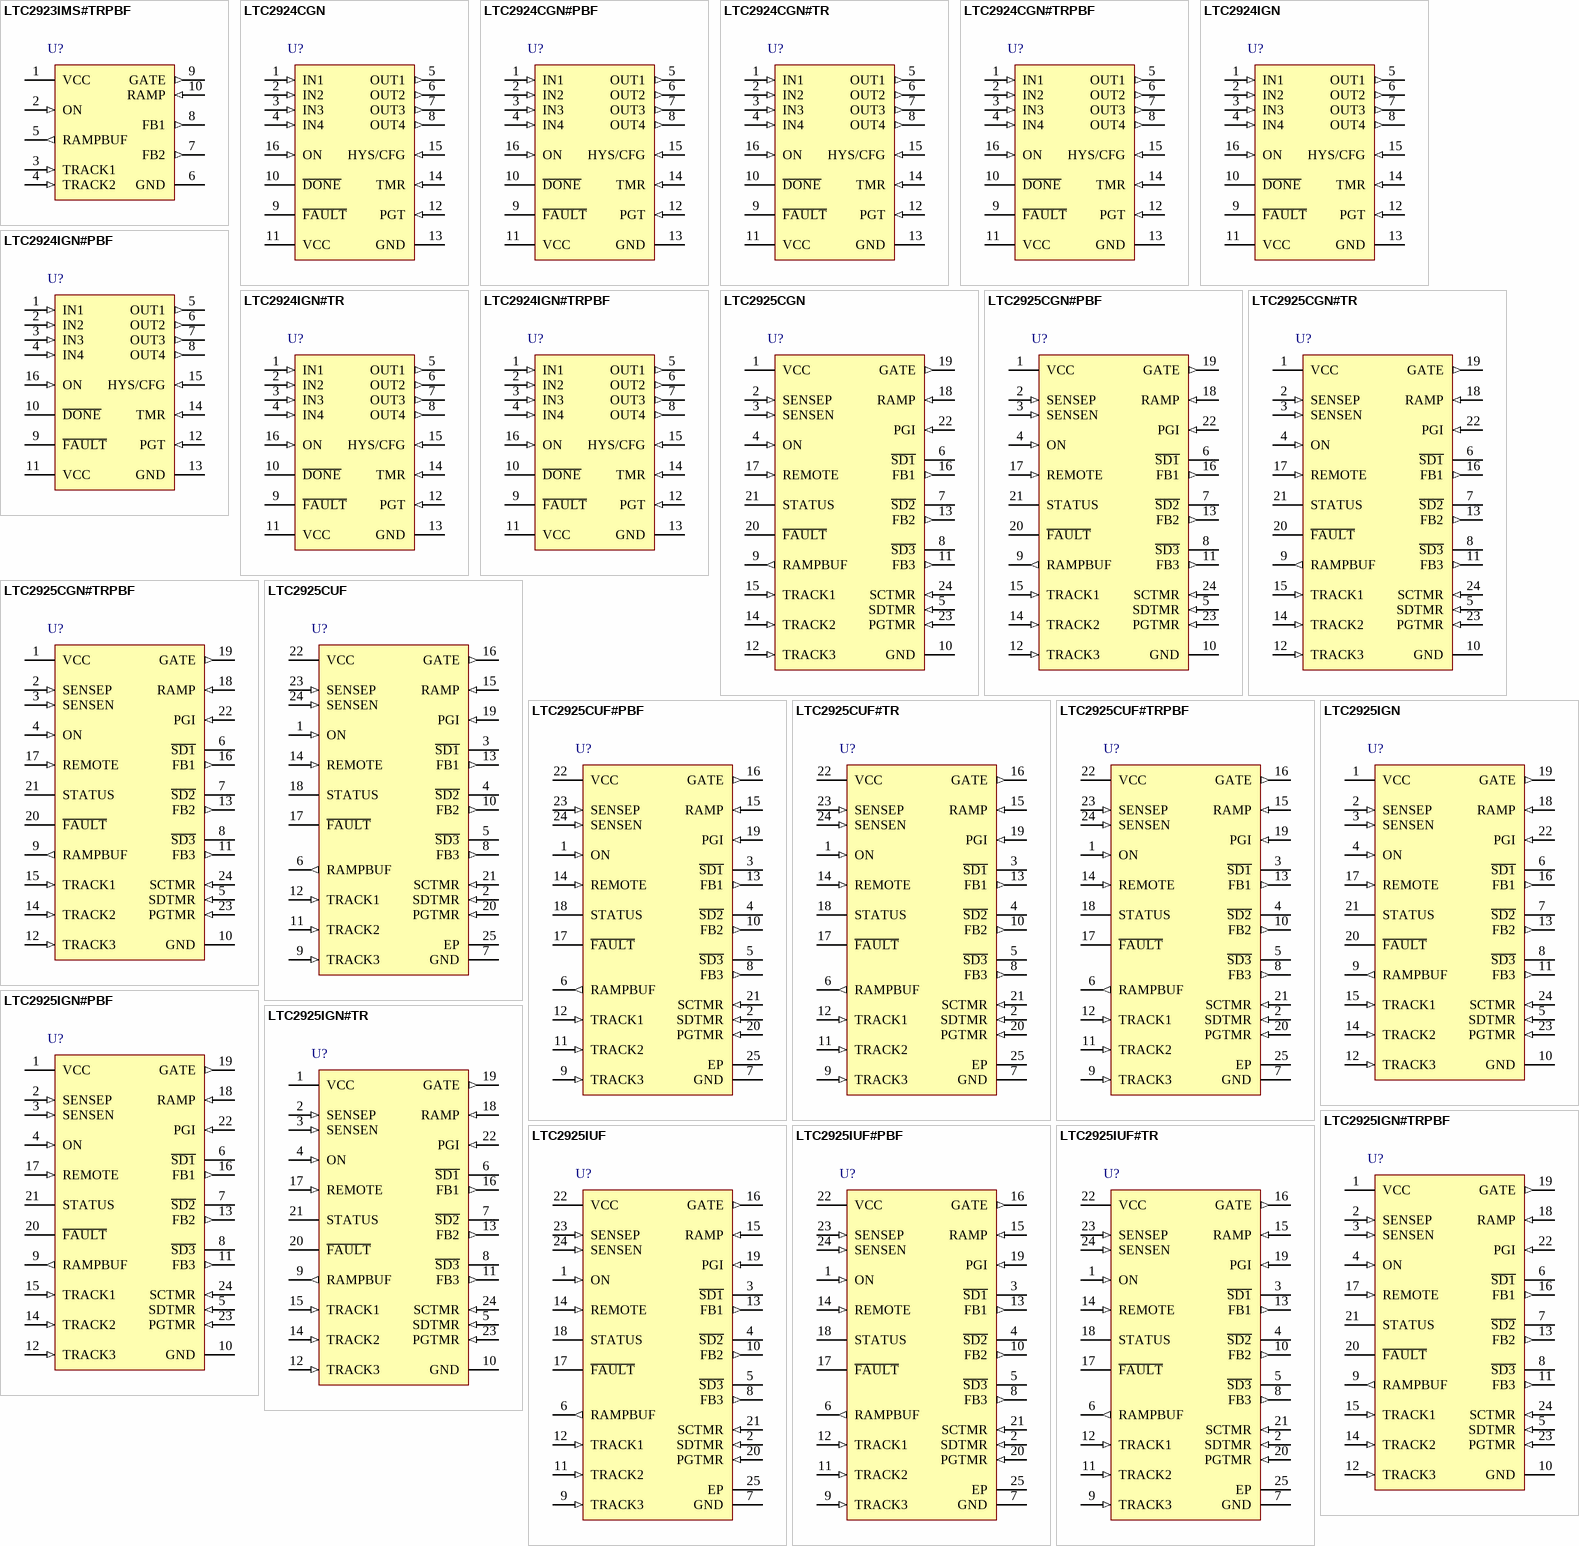
[diagram p29: symbols LTC2923IMS#TRPBF to LTC2925IUF#TR]

## LTC2923IMS#TRPBF
designator U?
Power Supply Tracking Controller, 10-pin SOP (MS-10), -40 to 85 degC, Pb-Free, Tape and Reel; Manufacturer: Linear Technology; PartNumber: LTC2923IMS#TRPBF; Number of Supplies(#): 3; DatasheetVersion: Rev. A; PackageVersion: Rev. E, 06/2010; PackageReference: MS-10; PackageDescription: 10-Pin Plastic MSOP, Body 3 x 3 mm, Pitch 0.5 mm; Supplier 1: Digi-Key; Supplier Part Number 1: LTC2923IMS#TRPBF-ND; Supplier 2: Newark; Supplier Part Number 2: 56M7096; Packing: Tape and Reel; RoHS: TRUE; Mounting Technology: Surface Mount; ComponentLink1Description: Manufacturer URL; ComponentLink1URL: http://www.linear.com/; ComponentLink2Description: Datasheet; ComponentLink2URL: http://cds.linear.com/docs/en/datasheet/2923fa.pdf; ComponentLink3Description: Package Specification; ComponentLink3URL: http://cds.linear.com/docs/en/packaging/05081661_F_MS.pdf
footprint LT-MS-10_N (SOP, 10-Leads, Body 3.1x3.1mm, Pitch 0.5mm, IPC Medium Density)
footprint LT-MS-10_L (SOP, 10-Leads, Body 3.1x3.1mm, Pitch 0.5mm, IPC High Density)
footprint LT-MS-10_M (SOP, 10-Leads, Body 3.1x3.1mm, Pitch 0.5mm, IPC Low Density)
pins: 1 VCC (power) "Positive Supply Input Pin. The operating supply input range is 2.9V to 5.5V. An undervoltage lockout circuit resets the part when the supply is below 2.5V. VCC should be bypassed to GND with a 0.1uF capacitor.", 2 ON (in) "On Control Input. The ON pin has a threshold of 1.23V with 75mV of hysteresis. An active high will cause 10uA to flow from the GATE pin, ramping up the supplies. An active low pulls 10uA from the GATE pin, ramping the (See Datasheet)", 3 TRACK1 (in) "Tracking Control Input. A resistive voltage divider between RAMPBUF and TRACKx determines the tracking profile of a slave supply (see Applications Information). TRACKx pulls up to 0.8V and the current supplied at TRACKx is (See Datasheet)", 4 TRACK2 (in) "Tracking Control Input. A resistive voltage divider between RAMPBUF and TRACKx determines the tracking profile of a slave supply (see Applications Information). TRACKx pulls up to 0.8V and the current supplied at TRACKx is (See Datasheet)", 5 RAMPBUF (out) "Ramp Buffer Output. Provides a low impedance buffered version of the signal on the RAMP pin. This buffered output drives the resistive dividers that connect to the TRACKx pins. Limit the capacitance at the RAMPBUF pin to (See Datasheet)", 6 GND (power) "Circuit Ground.", 7 FB2 (out) "Feedback Control Output. FBx pulls up on the feedback node of slave supplies. Tracking is achieved by mirroring the current from TRACKx into FBx. If the appropriate resistive divider connects RAMPBUF and TRACKx, the FBx (See Datasheet)", 8 FB1 (out) "Feedback Control Output. FBx pulls up on the feedback node of slave supplies. Tracking is achieved by mirroring the current from TRACKx into FBx. If the appropriate resistive divider connects RAMPBUF and TRACKx, the FBx (See Datasheet)", 9 GATE (out) "Gate Drive for External N-Channel FET. When the ON pin is high, an internal 10uA current source charges the gate of the external N-channel MOSFET. A capacitor connected from GATE to GND sets the ramp rate. An internal charge (See Datasheet)", 10 RAMP (in) "Ramp Buffer Input. When the RAMP pin is connected to the source of the external N-channel FET, the slave supplies track the FET's source as it ramps up and down. If the GATE is fully enhanced (GATE > RAMP + 4.9V) and (VC(See Datasheet)"